# EAGLE library part RN (library _mtvl.rcl)
RESISTOR NETWORK 4 resistors
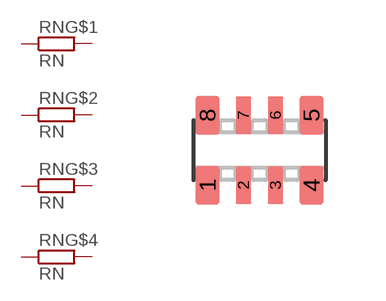
[diagram p1: symbol with the pads of RN0603X4; footprint RN0603X4]

Designator prefix RN; gates G$1=R G$2=R G$3=R G$4=R

## RN  [RN0603X4]
1  G$1:1  pas
2  G$2:1  pas
3  G$3:1  pas
4  G$4:1  pas
5  G$4:2  pas
6  G$3:2  pas
7  G$2:2  pas
8  G$1:2  pas

## Footprint RN0603X4 (pad centres in mm)
Chip Resistor Array Source: https://www.bourns.com/pdfs/CATCAY.pdf
smd 0.6 x 0.95: 1 -1.3,-0.875; 4 1.3,-0.875; 5 1.3,0.875; 8 -1.3,0.875
smd 0.4 x 0.95: 2 -0.4,-0.875; 3 0.4,-0.875; 6 0.4,0.875; 7 -0.4,0.875